# EAGLE library part M09 (library xess)
Male DB9 connector
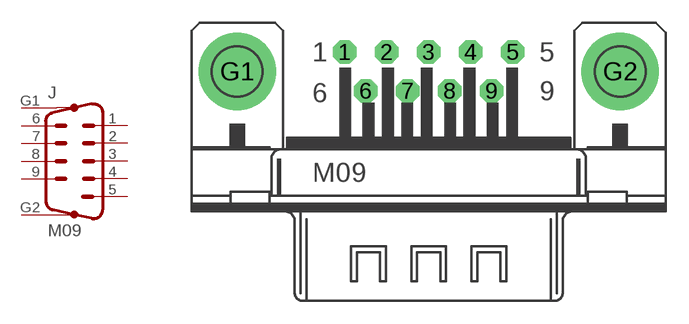
[diagram p13: symbol with the pads of M09H; footprint M09H]

Designator prefix J

## M09  [M09H]
1  1  pas
2  2  pas
3  3  pas
4  4  pas
5  5  pas
6  6  pas
7  7  pas
8  8  pas
9  9  pas
G1  G1  pas
G2  G2  pas

## Footprint M09H (pad centres in mm)
drill 1.016 octagon: 1 -5.486,8.89; 2 -2.743,8.89; 3 0,8.89; 4 2.743,8.89; 5 5.486,8.89; 6 -4.115,6.35; 7 -1.372,6.35; 8 1.372,6.35; 9 4.115,6.35
drill 3.302 pad 5.08 round: G1 -12.522,7.62; G2 12.522,7.62